# EAGLE library part CYPD3177-24LQXQ (library CYPD3177-24LQXQ)
USB Interface IC USB Type-C port controller CYPD3177 Source: Datasheet
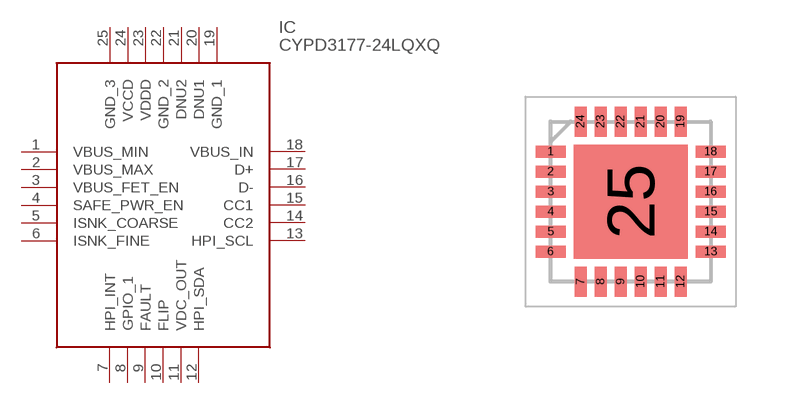
[diagram p0: symbol with the pads of QFN50P400X400X60-25N; footprint QFN50P400X400X60-25N]

Designator prefix IC

## CYPD3177-24LQXQ (Description: USB Interface IC USB Type-C port controller CYPD3177; Height: 0.6mm; Manufacturer_Name: Infineon; Manufacturer_Part_Number: CYPD3177-24LQXQ; Mouser_Part_Number: 727-CYPD3177-24LQXQ; Mouser_Price-Stock: https://www.mouser.co.uk/ProductDetail/Infineon-Technologies/CYPD3177-24LQXQ?qs=PzGy0jfpSMvR3aDH5AdWfA%3D%3D)  [QFN50P400X400X60-25N]
1  VBUS_MIN
2  VBUS_MAX
3  VBUS_FET_EN
4  SAFE_PWR_EN
5  ISNK_COARSE
6  ISNK_FINE
7  HPI_INT
8  GPIO_1
9  FAULT
10  FLIP
11  VDC_OUT
12  HPI_SDA
13  HPI_SCL
14  CC2
15  CC1
16  D-
17  D+
18  VBUS_IN
19  GND_1
20  DNU1
21  DNU2
22  GND_2
23  VDDD
24  VCCD
25  GND_3

## Footprint QFN50P400X400X60-25N (pad centres in mm)
24-pin QFN-ren3
smd 0.75 x 0.3: 1 -2,1.25; 2 -2,0.75; 3 -2,0.25; 4 -2,-0.25; 5 -2,-0.75; 6 -2,-1.25; 13 2,-1.25; 14 2,-0.75; 15 2,-0.25; 16 2,0.25; 17 2,0.75; 18 2,1.25
smd 0.3 x 0.75: 7 -1.25,-2; 8 -0.75,-2; 9 -0.25,-2; 10 0.25,-2; 11 0.75,-2; 12 1.25,-2; 19 1.25,2; 20 0.75,2; 21 0.25,2; 22 -0.25,2; 23 -0.75,2; 24 -1.25,2
smd 2.85 x 2.85: 25 0,0